# Altium schematic symbol library PX4FMUv2.4.6.SCHLIB: 261 symbols (part 2 of 3)
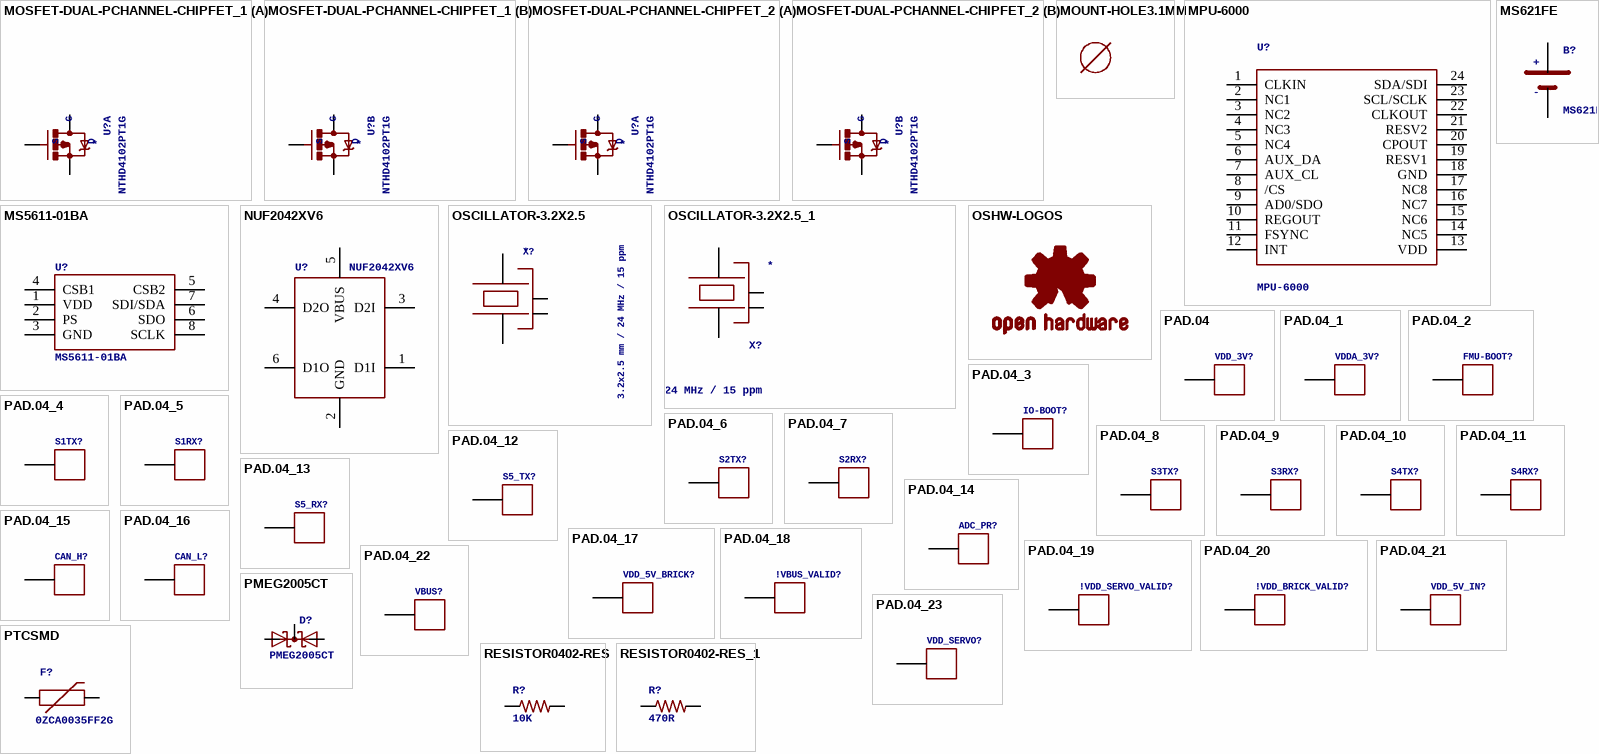
[diagram p9: symbols MOSFET-DUAL-PCHANNEL-CHIPFET_1 to RESISTOR0402-RES_1]

## PAD.04_9
designator S3RX?, comment PAD.04  (value not drawn)
Test padThis footprint includes three classes: The actual test pads, a pogo-pin footprint to mount the pogo-pin as through-hole part and a hole footprint which allows the head of the pogo-pin to pass through (do NOT use the hole to mount the pogo-pin). In a typical test setup, the stack would consist of three PCBs: The actual PCB under testing with a test pad on the bottom, then a second PCB with the hole for the pogo-pin head where the PCB under testing is pressed on and a third PCB at 30 mm / 1.2" distance with the pogo-pin footprints. The pogo-pins are soldered to the last PCB. To create the stack, copy the board under testing and exchange the footprints - this way the correct positioning is ensured.; GateName_1: G$1; DeviceName: .04; BOM: EXCLUDE; SymbolName_1: PAD; LibraryName: pixhawk2; DeviceSetName: PAD; PARTNO: *
footprint PAD.04X.04
pins: P$1

## PAD.04_10
designator S4TX?, comment PAD.04  (value not drawn)
Test padThis footprint includes three classes: The actual test pads, a pogo-pin footprint to mount the pogo-pin as through-hole part and a hole footprint which allows the head of the pogo-pin to pass through (do NOT use the hole to mount the pogo-pin). In a typical test setup, the stack would consist of three PCBs: The actual PCB under testing with a test pad on the bottom, then a second PCB with the hole for the pogo-pin head where the PCB under testing is pressed on and a third PCB at 30 mm / 1.2" distance with the pogo-pin footprints. The pogo-pins are soldered to the last PCB. To create the stack, copy the board under testing and exchange the footprints - this way the correct positioning is ensured.; GateName_1: G$1; DeviceName: .04; BOM: EXCLUDE; SymbolName_1: PAD; LibraryName: pixhawk2; DeviceSetName: PAD; PARTNO: *
footprint PAD.04X.04
pins: P$1

## PAD.04_11
designator S4RX?, comment PAD.04  (value not drawn)
Test padThis footprint includes three classes: The actual test pads, a pogo-pin footprint to mount the pogo-pin as through-hole part and a hole footprint which allows the head of the pogo-pin to pass through (do NOT use the hole to mount the pogo-pin). In a typical test setup, the stack would consist of three PCBs: The actual PCB under testing with a test pad on the bottom, then a second PCB with the hole for the pogo-pin head where the PCB under testing is pressed on and a third PCB at 30 mm / 1.2" distance with the pogo-pin footprints. The pogo-pins are soldered to the last PCB. To create the stack, copy the board under testing and exchange the footprints - this way the correct positioning is ensured.; GateName_1: G$1; DeviceName: .04; BOM: EXCLUDE; SymbolName_1: PAD; LibraryName: pixhawk2; DeviceSetName: PAD; PARTNO: *
footprint PAD.04X.04
pins: P$1

## PAD.04_12
designator S5_TX?, comment PAD.04  (value not drawn)
Test padThis footprint includes three classes: The actual test pads, a pogo-pin footprint to mount the pogo-pin as through-hole part and a hole footprint which allows the head of the pogo-pin to pass through (do NOT use the hole to mount the pogo-pin). In a typical test setup, the stack would consist of three PCBs: The actual PCB under testing with a test pad on the bottom, then a second PCB with the hole for the pogo-pin head where the PCB under testing is pressed on and a third PCB at 30 mm / 1.2" distance with the pogo-pin footprints. The pogo-pins are soldered to the last PCB. To create the stack, copy the board under testing and exchange the footprints - this way the correct positioning is ensured.; GateName_1: G$1; DeviceName: .04; BOM: EXCLUDE; SymbolName_1: PAD; LibraryName: pixhawk2; DeviceSetName: PAD; PARTNO: *
footprint PAD.04X.04
pins: P$1

## PAD.04_13
designator S5_RX?, comment PAD.04  (value not drawn)
Test padThis footprint includes three classes: The actual test pads, a pogo-pin footprint to mount the pogo-pin as through-hole part and a hole footprint which allows the head of the pogo-pin to pass through (do NOT use the hole to mount the pogo-pin). In a typical test setup, the stack would consist of three PCBs: The actual PCB under testing with a test pad on the bottom, then a second PCB with the hole for the pogo-pin head where the PCB under testing is pressed on and a third PCB at 30 mm / 1.2" distance with the pogo-pin footprints. The pogo-pins are soldered to the last PCB. To create the stack, copy the board under testing and exchange the footprints - this way the correct positioning is ensured.; GateName_1: G$1; DeviceName: .04; BOM: EXCLUDE; SymbolName_1: PAD; LibraryName: pixhawk2; DeviceSetName: PAD; PARTNO: *
footprint PAD.04X.04
pins: P$1

## PAD.04_14
designator ADC_PR?, comment PAD.04  (value not drawn)
Test padThis footprint includes three classes: The actual test pads, a pogo-pin footprint to mount the pogo-pin as through-hole part and a hole footprint which allows the head of the pogo-pin to pass through (do NOT use the hole to mount the pogo-pin). In a typical test setup, the stack would consist of three PCBs: The actual PCB under testing with a test pad on the bottom, then a second PCB with the hole for the pogo-pin head where the PCB under testing is pressed on and a third PCB at 30 mm / 1.2" distance with the pogo-pin footprints. The pogo-pins are soldered to the last PCB. To create the stack, copy the board under testing and exchange the footprints - this way the correct positioning is ensured.; GateName_1: G$1; DeviceName: .04; BOM: EXCLUDE; SymbolName_1: PAD; LibraryName: pixhawk2; DeviceSetName: PAD; PARTNO: *
footprint PAD.04X.04
pins: P$1

## PAD.04_15
designator CAN_H?, comment PAD.04  (value not drawn)
Test padThis footprint includes three classes: The actual test pads, a pogo-pin footprint to mount the pogo-pin as through-hole part and a hole footprint which allows the head of the pogo-pin to pass through (do NOT use the hole to mount the pogo-pin). In a typical test setup, the stack would consist of three PCBs: The actual PCB under testing with a test pad on the bottom, then a second PCB with the hole for the pogo-pin head where the PCB under testing is pressed on and a third PCB at 30 mm / 1.2" distance with the pogo-pin footprints. The pogo-pins are soldered to the last PCB. To create the stack, copy the board under testing and exchange the footprints - this way the correct positioning is ensured.; GateName_1: G$1; DeviceName: .04; BOM: EXCLUDE; SymbolName_1: PAD; LibraryName: pixhawk2; DeviceSetName: PAD; PARTNO: *
footprint PAD.04X.04
pins: P$1

## PAD.04_16
designator CAN_L?, comment PAD.04  (value not drawn)
Test padThis footprint includes three classes: The actual test pads, a pogo-pin footprint to mount the pogo-pin as through-hole part and a hole footprint which allows the head of the pogo-pin to pass through (do NOT use the hole to mount the pogo-pin). In a typical test setup, the stack would consist of three PCBs: The actual PCB under testing with a test pad on the bottom, then a second PCB with the hole for the pogo-pin head where the PCB under testing is pressed on and a third PCB at 30 mm / 1.2" distance with the pogo-pin footprints. The pogo-pins are soldered to the last PCB. To create the stack, copy the board under testing and exchange the footprints - this way the correct positioning is ensured.; GateName_1: G$1; DeviceName: .04; BOM: EXCLUDE; SymbolName_1: PAD; LibraryName: pixhawk2; DeviceSetName: PAD; PARTNO: *
footprint PAD.04X.04
pins: P$1

## PAD.04_17
designator VDD_5V_BRICK?, comment PAD.04  (value not drawn)
Test padThis footprint includes three classes: The actual test pads, a pogo-pin footprint to mount the pogo-pin as through-hole part and a hole footprint which allows the head of the pogo-pin to pass through (do NOT use the hole to mount the pogo-pin). In a typical test setup, the stack would consist of three PCBs: The actual PCB under testing with a test pad on the bottom, then a second PCB with the hole for the pogo-pin head where the PCB under testing is pressed on and a third PCB at 30 mm / 1.2" distance with the pogo-pin footprints. The pogo-pins are soldered to the last PCB. To create the stack, copy the board under testing and exchange the footprints - this way the correct positioning is ensured.; GateName_1: G$1; DeviceName: .04; BOM: EXCLUDE; SymbolName_1: PAD; LibraryName: pixhawk2; DeviceSetName: PAD; PARTNO: *
footprint PAD.04X.04
pins: P$1

## PAD.04_18
designator !VBUS_VALID?, comment PAD.04  (value not drawn)
Test padThis footprint includes three classes: The actual test pads, a pogo-pin footprint to mount the pogo-pin as through-hole part and a hole footprint which allows the head of the pogo-pin to pass through (do NOT use the hole to mount the pogo-pin). In a typical test setup, the stack would consist of three PCBs: The actual PCB under testing with a test pad on the bottom, then a second PCB with the hole for the pogo-pin head where the PCB under testing is pressed on and a third PCB at 30 mm / 1.2" distance with the pogo-pin footprints. The pogo-pins are soldered to the last PCB. To create the stack, copy the board under testing and exchange the footprints - this way the correct positioning is ensured.; GateName_1: G$1; DeviceName: .04; BOM: EXCLUDE; SymbolName_1: PAD; LibraryName: pixhawk2; DeviceSetName: PAD; PARTNO: *
footprint PAD.04X.04
pins: P$1

## PAD.04_19
designator !VDD_SERVO_VALID?, comment PAD.04  (value not drawn)
Test padThis footprint includes three classes: The actual test pads, a pogo-pin footprint to mount the pogo-pin as through-hole part and a hole footprint which allows the head of the pogo-pin to pass through (do NOT use the hole to mount the pogo-pin). In a typical test setup, the stack would consist of three PCBs: The actual PCB under testing with a test pad on the bottom, then a second PCB with the hole for the pogo-pin head where the PCB under testing is pressed on and a third PCB at 30 mm / 1.2" distance with the pogo-pin footprints. The pogo-pins are soldered to the last PCB. To create the stack, copy the board under testing and exchange the footprints - this way the correct positioning is ensured.; GateName_1: G$1; DeviceName: .04; BOM: EXCLUDE; SymbolName_1: PAD; LibraryName: pixhawk2; DeviceSetName: PAD; PARTNO: *
footprint PAD.04X.04
pins: P$1

## PAD.04_20
designator !VDD_BRICK_VALID?, comment PAD.04  (value not drawn)
Test padThis footprint includes three classes: The actual test pads, a pogo-pin footprint to mount the pogo-pin as through-hole part and a hole footprint which allows the head of the pogo-pin to pass through (do NOT use the hole to mount the pogo-pin). In a typical test setup, the stack would consist of three PCBs: The actual PCB under testing with a test pad on the bottom, then a second PCB with the hole for the pogo-pin head where the PCB under testing is pressed on and a third PCB at 30 mm / 1.2" distance with the pogo-pin footprints. The pogo-pins are soldered to the last PCB. To create the stack, copy the board under testing and exchange the footprints - this way the correct positioning is ensured.; GateName_1: G$1; DeviceName: .04; BOM: EXCLUDE; SymbolName_1: PAD; LibraryName: pixhawk2; DeviceSetName: PAD; PARTNO: *
footprint PAD.04X.04
pins: P$1

## PAD.04_21
designator VDD_5V_IN?, comment PAD.04  (value not drawn)
Test padThis footprint includes three classes: The actual test pads, a pogo-pin footprint to mount the pogo-pin as through-hole part and a hole footprint which allows the head of the pogo-pin to pass through (do NOT use the hole to mount the pogo-pin). In a typical test setup, the stack would consist of three PCBs: The actual PCB under testing with a test pad on the bottom, then a second PCB with the hole for the pogo-pin head where the PCB under testing is pressed on and a third PCB at 30 mm / 1.2" distance with the pogo-pin footprints. The pogo-pins are soldered to the last PCB. To create the stack, copy the board under testing and exchange the footprints - this way the correct positioning is ensured.; GateName_1: G$1; DeviceName: .04; BOM: EXCLUDE; SymbolName_1: PAD; LibraryName: pixhawk2; DeviceSetName: PAD; PARTNO: *
footprint PAD.04X.04
pins: P$1

## PAD.04_22
designator VBUS?, comment PAD.04  (value not drawn)
Test padThis footprint includes three classes: The actual test pads, a pogo-pin footprint to mount the pogo-pin as through-hole part and a hole footprint which allows the head of the pogo-pin to pass through (do NOT use the hole to mount the pogo-pin). In a typical test setup, the stack would consist of three PCBs: The actual PCB under testing with a test pad on the bottom, then a second PCB with the hole for the pogo-pin head where the PCB under testing is pressed on and a third PCB at 30 mm / 1.2" distance with the pogo-pin footprints. The pogo-pins are soldered to the last PCB. To create the stack, copy the board under testing and exchange the footprints - this way the correct positioning is ensured.; GateName_1: G$1; DeviceName: .04; BOM: EXCLUDE; SymbolName_1: PAD; LibraryName: pixhawk2; DeviceSetName: PAD; PARTNO: *
footprint PAD.04X.04
pins: P$1

## PAD.04_23
designator VDD_SERVO?, comment PAD.04  (value not drawn)
Test padThis footprint includes three classes: The actual test pads, a pogo-pin footprint to mount the pogo-pin as through-hole part and a hole footprint which allows the head of the pogo-pin to pass through (do NOT use the hole to mount the pogo-pin). In a typical test setup, the stack would consist of three PCBs: The actual PCB under testing with a test pad on the bottom, then a second PCB with the hole for the pogo-pin head where the PCB under testing is pressed on and a third PCB at 30 mm / 1.2" distance with the pogo-pin footprints. The pogo-pins are soldered to the last PCB. To create the stack, copy the board under testing and exchange the footprints - this way the correct positioning is ensured.; GateName_1: G$1; DeviceName: .04; BOM: EXCLUDE; SymbolName_1: PAD; LibraryName: pixhawk2; DeviceSetName: PAD; PARTNO: *
footprint PAD.04X.04
pins: P$1

## PMEG2005CT
designator D?
500 mA low VF dual MEGA Schottky barrier rectifierhttp://www.nxp.com/documents/data_sheet/PMEG2005CT.pdf; GateName_1: G$1; SymbolName_1: SDD_AKKA; LibraryName: pixhawk2; DeviceSetName: PMEG2005CT; PARTNO: PMEG2005CT
footprint SOT23-3
pins: 1 A1, 2 A2, 3 CC

## PTCSMD
designator F?, comment 0ZCA0035FF2G
Resettable Fuse PTCResettable Fuse. Spark Fun Electronics SKU : COM-08357; GateName_1: G$1; SymbolName_1: PTC; DeviceName: SMD; LibraryName: pixhawk2; DeviceSetName: PTC; PARTNO: 0ZCA0035FF2G
footprint PTC-1206
pins: 1, 2

## RESISTOR0402-RES
designator R?, comment 10K
ResistorBasic schematic elements and footprints for 0603, 1206, and PTH 1/10th watt (small) resistors.; PARTNO: RC0402FR-0710KL; GateName_1: G$1; DeviceName: 0402-RES; SymbolName_1: RESISTOR; LibraryName: pixhawk2; DeviceSetName: RESISTOR
footprint 0402-RES
pins: P$1 1, P$2 2

## RESISTOR0402-RES_1
designator R?, comment 470R
ResistorBasic schematic elements and footprints for 0603, 1206, and PTH 1/10th watt (small) resistors.; PARTNO: RC0402FR-07470RL; GateName_1: G$1; DeviceName: 0402-RES; SymbolName_1: RESISTOR; LibraryName: pixhawk2; DeviceSetName: RESISTOR
footprint 0402-RES
pins: P$1 1, P$2 2

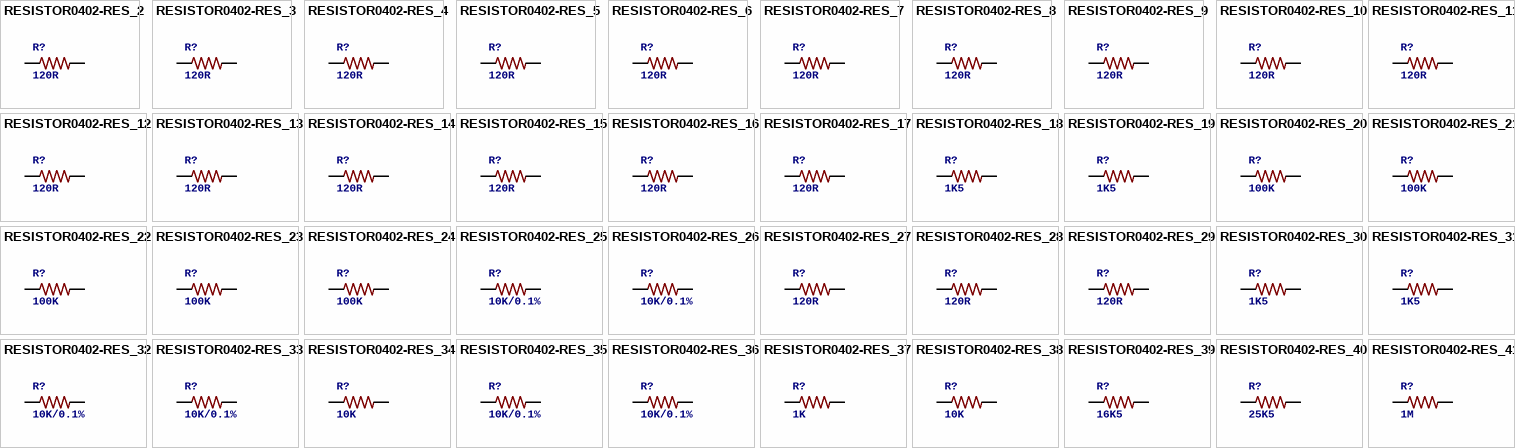
[diagram p5: symbols RESISTOR0402-RES_2 to RESISTOR0402-RES_41]

## RESISTOR0402-RES_2
designator R?, comment 120R
ResistorBasic schematic elements and footprints for 0603, 1206, and PTH 1/10th watt (small) resistors.; PARTNO: RC0402FR-07120RL; GateName_1: G$1; DeviceName: 0402-RES; SymbolName_1: RESISTOR; LibraryName: pixhawk2; DeviceSetName: RESISTOR
footprint 0402-RES
pins: P$1 1, P$2 2

## RESISTOR0402-RES_3
designator R?, comment 120R
ResistorBasic schematic elements and footprints for 0603, 1206, and PTH 1/10th watt (small) resistors.; PARTNO: RC0402FR-07120RL; GateName_1: G$1; DeviceName: 0402-RES; SymbolName_1: RESISTOR; LibraryName: pixhawk2; DeviceSetName: RESISTOR
footprint 0402-RES
pins: P$1 1, P$2 2

## RESISTOR0402-RES_4
designator R?, comment 120R
ResistorBasic schematic elements and footprints for 0603, 1206, and PTH 1/10th watt (small) resistors.; PARTNO: RC0402FR-07120RL; GateName_1: G$1; DeviceName: 0402-RES; SymbolName_1: RESISTOR; LibraryName: pixhawk2; DeviceSetName: RESISTOR
footprint 0402-RES
pins: P$1 1, P$2 2

## RESISTOR0402-RES_5
designator R?, comment 120R
ResistorBasic schematic elements and footprints for 0603, 1206, and PTH 1/10th watt (small) resistors.; PARTNO: RC0402FR-07120RL; GateName_1: G$1; DeviceName: 0402-RES; SymbolName_1: RESISTOR; LibraryName: pixhawk2; DeviceSetName: RESISTOR
footprint 0402-RES
pins: P$1 1, P$2 2

## RESISTOR0402-RES_6
designator R?, comment 120R
ResistorBasic schematic elements and footprints for 0603, 1206, and PTH 1/10th watt (small) resistors.; PARTNO: RC0402FR-07120RL; GateName_1: G$1; DeviceName: 0402-RES; SymbolName_1: RESISTOR; LibraryName: pixhawk2; DeviceSetName: RESISTOR
footprint 0402-RES
pins: P$1 1, P$2 2

## RESISTOR0402-RES_7
designator R?, comment 120R
ResistorBasic schematic elements and footprints for 0603, 1206, and PTH 1/10th watt (small) resistors.; PARTNO: RC0402FR-07120RL; GateName_1: G$1; DeviceName: 0402-RES; SymbolName_1: RESISTOR; LibraryName: pixhawk2; DeviceSetName: RESISTOR
footprint 0402-RES
pins: P$1 1, P$2 2

## RESISTOR0402-RES_8
designator R?, comment 120R
ResistorBasic schematic elements and footprints for 0603, 1206, and PTH 1/10th watt (small) resistors.; PARTNO: RC0402FR-07120RL; GateName_1: G$1; DeviceName: 0402-RES; SymbolName_1: RESISTOR; LibraryName: pixhawk2; DeviceSetName: RESISTOR
footprint 0402-RES
pins: P$1 1, P$2 2

## RESISTOR0402-RES_9
designator R?, comment 120R
ResistorBasic schematic elements and footprints for 0603, 1206, and PTH 1/10th watt (small) resistors.; PARTNO: RC0402FR-07120RL; GateName_1: G$1; DeviceName: 0402-RES; SymbolName_1: RESISTOR; LibraryName: pixhawk2; DeviceSetName: RESISTOR
footprint 0402-RES
pins: P$1 1, P$2 2

## RESISTOR0402-RES_10
designator R?, comment 120R
ResistorBasic schematic elements and footprints for 0603, 1206, and PTH 1/10th watt (small) resistors.; PARTNO: RC0402FR-07120RL; GateName_1: G$1; DeviceName: 0402-RES; SymbolName_1: RESISTOR; LibraryName: pixhawk2; DeviceSetName: RESISTOR
footprint 0402-RES
pins: P$1 1, P$2 2

## RESISTOR0402-RES_11
designator R?, comment 120R
ResistorBasic schematic elements and footprints for 0603, 1206, and PTH 1/10th watt (small) resistors.; PARTNO: RC0402FR-07120RL; GateName_1: G$1; DeviceName: 0402-RES; SymbolName_1: RESISTOR; LibraryName: pixhawk2; DeviceSetName: RESISTOR
footprint 0402-RES
pins: P$1 1, P$2 2

## RESISTOR0402-RES_12
designator R?, comment 120R
ResistorBasic schematic elements and footprints for 0603, 1206, and PTH 1/10th watt (small) resistors.; PARTNO: RC0402FR-07120RL; GateName_1: G$1; DeviceName: 0402-RES; SymbolName_1: RESISTOR; LibraryName: pixhawk2; DeviceSetName: RESISTOR
footprint 0402-RES
pins: P$1 1, P$2 2

## RESISTOR0402-RES_13
designator R?, comment 120R
ResistorBasic schematic elements and footprints for 0603, 1206, and PTH 1/10th watt (small) resistors.; PARTNO: RC0402FR-07120RL; GateName_1: G$1; DeviceName: 0402-RES; SymbolName_1: RESISTOR; LibraryName: pixhawk2; DeviceSetName: RESISTOR
footprint 0402-RES
pins: P$1 1, P$2 2

## RESISTOR0402-RES_14
designator R?, comment 120R
ResistorBasic schematic elements and footprints for 0603, 1206, and PTH 1/10th watt (small) resistors.; PARTNO: RC0402FR-07120RL; GateName_1: G$1; DeviceName: 0402-RES; SymbolName_1: RESISTOR; LibraryName: pixhawk2; DeviceSetName: RESISTOR
footprint 0402-RES
pins: P$1 1, P$2 2

## RESISTOR0402-RES_15
designator R?, comment 120R
ResistorBasic schematic elements and footprints for 0603, 1206, and PTH 1/10th watt (small) resistors.; PARTNO: RC0402FR-07120RL; GateName_1: G$1; DeviceName: 0402-RES; SymbolName_1: RESISTOR; LibraryName: pixhawk2; DeviceSetName: RESISTOR
footprint 0402-RES
pins: P$1 1, P$2 2

## RESISTOR0402-RES_16
designator R?, comment 120R
ResistorBasic schematic elements and footprints for 0603, 1206, and PTH 1/10th watt (small) resistors.; PARTNO: RC0402FR-07120RL; GateName_1: G$1; DeviceName: 0402-RES; SymbolName_1: RESISTOR; LibraryName: pixhawk2; DeviceSetName: RESISTOR
footprint 0402-RES
pins: P$1 1, P$2 2

## RESISTOR0402-RES_17
designator R?, comment 120R
ResistorBasic schematic elements and footprints for 0603, 1206, and PTH 1/10th watt (small) resistors.; PARTNO: RC0402FR-07120RL; GateName_1: G$1; DeviceName: 0402-RES; SymbolName_1: RESISTOR; LibraryName: pixhawk2; DeviceSetName: RESISTOR
footprint 0402-RES
pins: P$1 1, P$2 2

## RESISTOR0402-RES_18
designator R?, comment 1K5
ResistorBasic schematic elements and footprints for 0603, 1206, and PTH 1/10th watt (small) resistors.; PARTNO: RC0402FR-071K5L; GateName_1: G$1; DeviceName: 0402-RES; SymbolName_1: RESISTOR; LibraryName: pixhawk2; DeviceSetName: RESISTOR
footprint 0402-RES
pins: P$1 1, P$2 2

## RESISTOR0402-RES_19
designator R?, comment 1K5
ResistorBasic schematic elements and footprints for 0603, 1206, and PTH 1/10th watt (small) resistors.; PARTNO: RC0402FR-071K5L; GateName_1: G$1; DeviceName: 0402-RES; SymbolName_1: RESISTOR; LibraryName: pixhawk2; DeviceSetName: RESISTOR
footprint 0402-RES
pins: P$1 1, P$2 2

## RESISTOR0402-RES_20
designator R?, comment 100K
ResistorBasic schematic elements and footprints for 0603, 1206, and PTH 1/10th watt (small) resistors.; PARTNO: RC0402FR-07100KL; GateName_1: G$1; DeviceName: 0402-RES; SymbolName_1: RESISTOR; LibraryName: pixhawk2; DeviceSetName: RESISTOR
footprint 0402-RES
pins: P$1 1, P$2 2

## RESISTOR0402-RES_21
designator R?, comment 100K
ResistorBasic schematic elements and footprints for 0603, 1206, and PTH 1/10th watt (small) resistors.; PARTNO: RC0402FR-07100KL; GateName_1: G$1; DeviceName: 0402-RES; SymbolName_1: RESISTOR; LibraryName: pixhawk2; DeviceSetName: RESISTOR
footprint 0402-RES
pins: P$1 1, P$2 2

## RESISTOR0402-RES_22
designator R?, comment 100K
ResistorBasic schematic elements and footprints for 0603, 1206, and PTH 1/10th watt (small) resistors.; PARTNO: RC0402FR-07100KL; GateName_1: G$1; DeviceName: 0402-RES; SymbolName_1: RESISTOR; LibraryName: pixhawk2; DeviceSetName: RESISTOR
footprint 0402-RES
pins: P$1 1, P$2 2

## RESISTOR0402-RES_23
designator R?, comment 100K
ResistorBasic schematic elements and footprints for 0603, 1206, and PTH 1/10th watt (small) resistors.; PARTNO: RC0402FR-07100KL; GateName_1: G$1; DeviceName: 0402-RES; SymbolName_1: RESISTOR; LibraryName: pixhawk2; DeviceSetName: RESISTOR
footprint 0402-RES
pins: P$1 1, P$2 2

## RESISTOR0402-RES_24
designator R?, comment 100K
ResistorBasic schematic elements and footprints for 0603, 1206, and PTH 1/10th watt (small) resistors.; PARTNO: RC0402FR-07100KL; GateName_1: G$1; DeviceName: 0402-RES; SymbolName_1: RESISTOR; LibraryName: pixhawk2; DeviceSetName: RESISTOR
footprint 0402-RES
pins: P$1 1, P$2 2

## RESISTOR0402-RES_25
designator R?, comment 10K/0.1%
ResistorBasic schematic elements and footprints for 0603, 1206, and PTH 1/10th watt (small) resistors.; PARTNO: ERA-2AEB103X; GateName_1: G$1; DeviceName: 0402-RES; SymbolName_1: RESISTOR; LibraryName: pixhawk2; DeviceSetName: RESISTOR
footprint 0402-RES
pins: P$1 1, P$2 2

## RESISTOR0402-RES_26
designator R?, comment 10K/0.1%
ResistorBasic schematic elements and footprints for 0603, 1206, and PTH 1/10th watt (small) resistors.; PARTNO: ERA-2AEB103X; GateName_1: G$1; DeviceName: 0402-RES; SymbolName_1: RESISTOR; LibraryName: pixhawk2; DeviceSetName: RESISTOR
footprint 0402-RES
pins: P$1 1, P$2 2

## RESISTOR0402-RES_27
designator R?, comment 120R
ResistorBasic schematic elements and footprints for 0603, 1206, and PTH 1/10th watt (small) resistors.; PARTNO: RC0402FR-07120RL; GateName_1: G$1; DeviceName: 0402-RES; SymbolName_1: RESISTOR; LibraryName: pixhawk2; DeviceSetName: RESISTOR
footprint 0402-RES
pins: P$1 1, P$2 2

## RESISTOR0402-RES_28
designator R?, comment 120R
ResistorBasic schematic elements and footprints for 0603, 1206, and PTH 1/10th watt (small) resistors.; PARTNO: RC0402FR-07120RL; GateName_1: G$1; DeviceName: 0402-RES; SymbolName_1: RESISTOR; LibraryName: pixhawk2; DeviceSetName: RESISTOR
footprint 0402-RES
pins: P$1 1, P$2 2

## RESISTOR0402-RES_29
designator R?, comment 120R
ResistorBasic schematic elements and footprints for 0603, 1206, and PTH 1/10th watt (small) resistors.; PARTNO: RC0402FR-07120RL; GateName_1: G$1; DeviceName: 0402-RES; SymbolName_1: RESISTOR; LibraryName: pixhawk2; DeviceSetName: RESISTOR
footprint 0402-RES
pins: P$1 1, P$2 2

## RESISTOR0402-RES_30
designator R?, comment 1K5
ResistorBasic schematic elements and footprints for 0603, 1206, and PTH 1/10th watt (small) resistors.; PARTNO: RC0402FR-071K5L; GateName_1: G$1; DeviceName: 0402-RES; SymbolName_1: RESISTOR; LibraryName: pixhawk2; DeviceSetName: RESISTOR
footprint 0402-RES
pins: P$1 1, P$2 2

## RESISTOR0402-RES_31
designator R?, comment 1K5
ResistorBasic schematic elements and footprints for 0603, 1206, and PTH 1/10th watt (small) resistors.; PARTNO: RC0402FR-071K5L; GateName_1: G$1; DeviceName: 0402-RES; SymbolName_1: RESISTOR; LibraryName: pixhawk2; DeviceSetName: RESISTOR
footprint 0402-RES
pins: P$1 1, P$2 2

## RESISTOR0402-RES_32
designator R?, comment 10K/0.1%
ResistorBasic schematic elements and footprints for 0603, 1206, and PTH 1/10th watt (small) resistors.; PARTNO: ERA-2AEB103X; GateName_1: G$1; DeviceName: 0402-RES; SymbolName_1: RESISTOR; LibraryName: pixhawk2; DeviceSetName: RESISTOR
footprint 0402-RES
pins: P$1 1, P$2 2

## RESISTOR0402-RES_33
designator R?, comment 10K/0.1%
ResistorBasic schematic elements and footprints for 0603, 1206, and PTH 1/10th watt (small) resistors.; PARTNO: ERA-2AEB103X; GateName_1: G$1; DeviceName: 0402-RES; SymbolName_1: RESISTOR; LibraryName: pixhawk2; DeviceSetName: RESISTOR
footprint 0402-RES
pins: P$1 1, P$2 2

## RESISTOR0402-RES_34
designator R?, comment 10K
ResistorBasic schematic elements and footprints for 0603, 1206, and PTH 1/10th watt (small) resistors.; PARTNO: RC0402FR-0710KL; GateName_1: G$1; DeviceName: 0402-RES; SymbolName_1: RESISTOR; LibraryName: pixhawk2; DeviceSetName: RESISTOR
footprint 0402-RES
pins: P$1 1, P$2 2

## RESISTOR0402-RES_35
designator R?, comment 10K/0.1%
ResistorBasic schematic elements and footprints for 0603, 1206, and PTH 1/10th watt (small) resistors.; PARTNO: ERA-2AEB103X; GateName_1: G$1; DeviceName: 0402-RES; SymbolName_1: RESISTOR; LibraryName: pixhawk2; DeviceSetName: RESISTOR
footprint 0402-RES
pins: P$1 1, P$2 2

## RESISTOR0402-RES_36
designator R?, comment 10K/0.1%
ResistorBasic schematic elements and footprints for 0603, 1206, and PTH 1/10th watt (small) resistors.; PARTNO: ERA-2AEB103X; GateName_1: G$1; DeviceName: 0402-RES; SymbolName_1: RESISTOR; LibraryName: pixhawk2; DeviceSetName: RESISTOR
footprint 0402-RES
pins: P$1 1, P$2 2

## RESISTOR0402-RES_37
designator R?, comment 1K
ResistorBasic schematic elements and footprints for 0603, 1206, and PTH 1/10th watt (small) resistors.; PARTNO: RC0402FR-071KL; GateName_1: G$1; DeviceName: 0402-RES; SymbolName_1: RESISTOR; LibraryName: pixhawk2; DeviceSetName: RESISTOR
footprint 0402-RES
pins: P$1 1, P$2 2

## RESISTOR0402-RES_38
designator R?, comment 10K
ResistorBasic schematic elements and footprints for 0603, 1206, and PTH 1/10th watt (small) resistors.; PARTNO: RC0402FR-0710KL; GateName_1: G$1; DeviceName: 0402-RES; SymbolName_1: RESISTOR; LibraryName: pixhawk2; DeviceSetName: RESISTOR
footprint 0402-RES
pins: P$1 1, P$2 2

## RESISTOR0402-RES_39
designator R?, comment 16K5
ResistorBasic schematic elements and footprints for 0603, 1206, and PTH 1/10th watt (small) resistors.; PARTNO: RMCF0402FT16K5; GateName_1: G$1; DeviceName: 0402-RES; SymbolName_1: RESISTOR; LibraryName: pixhawk2; DeviceSetName: RESISTOR
footprint 0402-RES
pins: P$1 1, P$2 2

## RESISTOR0402-RES_40
designator R?, comment 25K5
ResistorBasic schematic elements and footprints for 0603, 1206, and PTH 1/10th watt (small) resistors.; PARTNO: RMCF0402FT25K5; GateName_1: G$1; DeviceName: 0402-RES; SymbolName_1: RESISTOR; LibraryName: pixhawk2; DeviceSetName: RESISTOR
footprint 0402-RES
pins: P$1 1, P$2 2

## RESISTOR0402-RES_41
designator R?, comment 1M
ResistorBasic schematic elements and footprints for 0603, 1206, and PTH 1/10th watt (small) resistors.; PARTNO: RC0402FR-071ML; GateName_1: G$1; DeviceName: 0402-RES; SymbolName_1: RESISTOR; LibraryName: pixhawk2; DeviceSetName: RESISTOR
footprint 0402-RES
pins: P$1 1, P$2 2

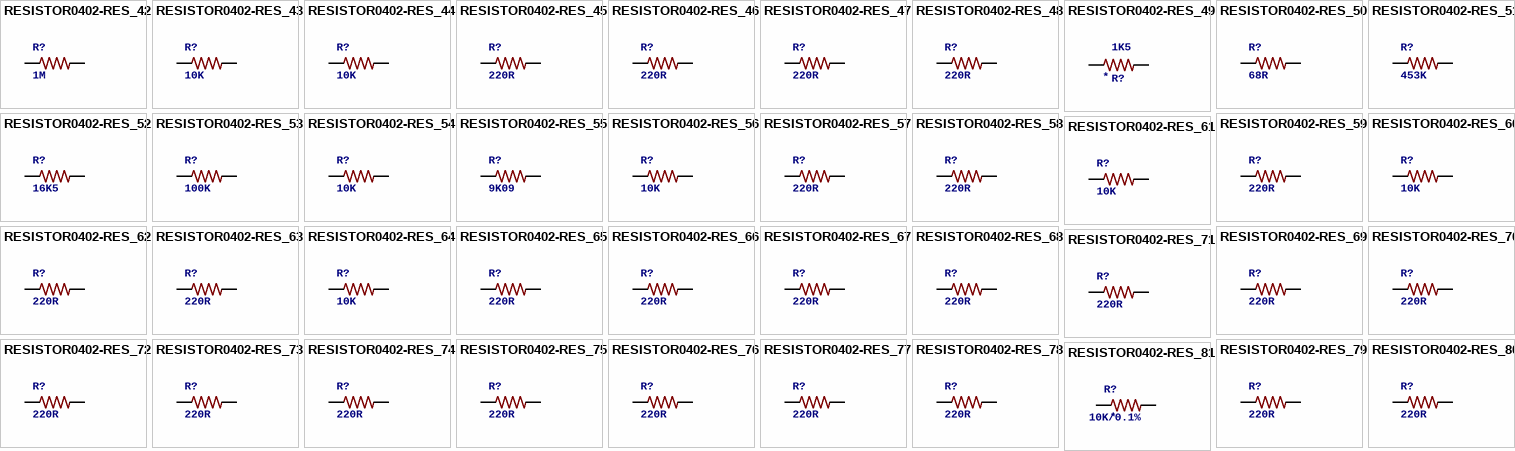
[diagram p6: symbols RESISTOR0402-RES_42 to RESISTOR0402-RES_81]

## RESISTOR0402-RES_42
designator R?, comment 1M
ResistorBasic schematic elements and footprints for 0603, 1206, and PTH 1/10th watt (small) resistors.; PARTNO: RC0402FR-071ML; GateName_1: G$1; DeviceName: 0402-RES; SymbolName_1: RESISTOR; LibraryName: pixhawk2; DeviceSetName: RESISTOR
footprint 0402-RES
pins: P$1 1, P$2 2

## RESISTOR0402-RES_43
designator R?, comment 10K
ResistorBasic schematic elements and footprints for 0603, 1206, and PTH 1/10th watt (small) resistors.; PARTNO: RC0402FR-0710KL; GateName_1: G$1; DeviceName: 0402-RES; SymbolName_1: RESISTOR; LibraryName: pixhawk2; DeviceSetName: RESISTOR; BOM: *
footprint 0402-RES
pins: P$1 1, P$2 2

## RESISTOR0402-RES_44
designator R?, comment 10K
ResistorBasic schematic elements and footprints for 0603, 1206, and PTH 1/10th watt (small) resistors.; PARTNO: RC0402FR-0710KL; GateName_1: G$1; DeviceName: 0402-RES; BOM: EXCLUDE; SymbolName_1: RESISTOR; LibraryName: pixhawk2; DeviceSetName: RESISTOR
footprint 0402-RES
pins: P$1 1, P$2 2

## RESISTOR0402-RES_45
designator R?, comment 220R
ResistorBasic schematic elements and footprints for 0603, 1206, and PTH 1/10th watt (small) resistors.; PARTNO: RC0402FR-07220RL; GateName_1: G$1; DeviceName: 0402-RES; SymbolName_1: RESISTOR; LibraryName: pixhawk2; DeviceSetName: RESISTOR
footprint 0402-RES
pins: P$1 1, P$2 2

## RESISTOR0402-RES_46
designator R?, comment 220R
ResistorBasic schematic elements and footprints for 0603, 1206, and PTH 1/10th watt (small) resistors.; PARTNO: RC0402FR-07220RL; GateName_1: G$1; DeviceName: 0402-RES; SymbolName_1: RESISTOR; LibraryName: pixhawk2; DeviceSetName: RESISTOR
footprint 0402-RES
pins: P$1 1, P$2 2

## RESISTOR0402-RES_47
designator R?, comment 220R
ResistorBasic schematic elements and footprints for 0603, 1206, and PTH 1/10th watt (small) resistors.; PARTNO: RC0402FR-07220RL; GateName_1: G$1; DeviceName: 0402-RES; SymbolName_1: RESISTOR; LibraryName: pixhawk2; DeviceSetName: RESISTOR
footprint 0402-RES
pins: P$1 1, P$2 2

## RESISTOR0402-RES_48
designator R?, comment 220R
ResistorBasic schematic elements and footprints for 0603, 1206, and PTH 1/10th watt (small) resistors.; PARTNO: RC0402FR-07220RL; GateName_1: G$1; DeviceName: 0402-RES; SymbolName_1: RESISTOR; LibraryName: pixhawk2; DeviceSetName: RESISTOR
footprint 0402-RES
pins: P$1 1, P$2 2

## RESISTOR0402-RES_49
designator R?, comment 1K5
ResistorBasic schematic elements and footprints for 0603, 1206, and PTH 1/10th watt (small) resistors.; PARTNO: RC0402FR-071K5L; GateName_1: G$1; DeviceName: 0402-RES; SymbolName_1: RESISTOR; LibraryName: pixhawk2; DeviceSetName: RESISTOR; NAME: *
footprint 0402-RES
pins: P$1 1, P$2 2

## RESISTOR0402-RES_50
designator R?, comment 68R
ResistorBasic schematic elements and footprints for 0603, 1206, and PTH 1/10th watt (small) resistors.; PARTNO: ERJ-2GEJ680X; GateName_1: G$1; DeviceName: 0402-RES; SymbolName_1: RESISTOR; LibraryName: pixhawk2; DeviceSetName: RESISTOR
footprint 0402-RES
pins: P$1 1, P$2 2

## RESISTOR0402-RES_51
designator R?, comment 453K
ResistorBasic schematic elements and footprints for 0603, 1206, and PTH 1/10th watt (small) resistors.; PARTNO: RMCF0402FT453K; GateName_1: G$1; DeviceName: 0402-RES; SymbolName_1: RESISTOR; LibraryName: pixhawk2; DeviceSetName: RESISTOR
footprint 0402-RES
pins: P$1 1, P$2 2

## RESISTOR0402-RES_52
designator R?, comment 16K5
ResistorBasic schematic elements and footprints for 0603, 1206, and PTH 1/10th watt (small) resistors.; PARTNO: RMCF0402FT16K5; GateName_1: G$1; DeviceName: 0402-RES; SymbolName_1: RESISTOR; LibraryName: pixhawk2; DeviceSetName: RESISTOR
footprint 0402-RES
pins: P$1 1, P$2 2

## RESISTOR0402-RES_53
designator R?, comment 100K
ResistorBasic schematic elements and footprints for 0603, 1206, and PTH 1/10th watt (small) resistors.; PARTNO: RC0402FR-07100KL; GateName_1: G$1; DeviceName: 0402-RES; SymbolName_1: RESISTOR; LibraryName: pixhawk2; DeviceSetName: RESISTOR
footprint 0402-RES
pins: P$1 1, P$2 2

## RESISTOR0402-RES_54
designator R?, comment 10K
ResistorBasic schematic elements and footprints for 0603, 1206, and PTH 1/10th watt (small) resistors.; PARTNO: RC0402FR-0710KL; GateName_1: G$1; DeviceName: 0402-RES; SymbolName_1: RESISTOR; LibraryName: pixhawk2; DeviceSetName: RESISTOR
footprint 0402-RES
pins: P$1 1, P$2 2

## RESISTOR0402-RES_55
designator R?, comment 9K09
ResistorBasic schematic elements and footprints for 0603, 1206, and PTH 1/10th watt (small) resistors.; PARTNO: RMCF0402FT9K09; GateName_1: G$1; DeviceName: 0402-RES; SymbolName_1: RESISTOR; LibraryName: pixhawk2; DeviceSetName: RESISTOR
footprint 0402-RES
pins: P$1 1, P$2 2

## RESISTOR0402-RES_56
designator R?, comment 10K
ResistorBasic schematic elements and footprints for 0603, 1206, and PTH 1/10th watt (small) resistors.; PARTNO: RC0402FR-0710KL; GateName_1: G$1; DeviceName: 0402-RES; SymbolName_1: RESISTOR; LibraryName: pixhawk2; DeviceSetName: RESISTOR
footprint 0402-RES
pins: P$1 1, P$2 2

## RESISTOR0402-RES_57
designator R?, comment 220R
ResistorBasic schematic elements and footprints for 0603, 1206, and PTH 1/10th watt (small) resistors.; PARTNO: RC0402FR-07220RL; GateName_1: G$1; DeviceName: 0402-RES; SymbolName_1: RESISTOR; LibraryName: pixhawk2; DeviceSetName: RESISTOR
footprint 0402-RES
pins: P$1 1, P$2 2

## RESISTOR0402-RES_58
designator R?, comment 220R
ResistorBasic schematic elements and footprints for 0603, 1206, and PTH 1/10th watt (small) resistors.; PARTNO: RC0402FR-07220RL; GateName_1: G$1; DeviceName: 0402-RES; SymbolName_1: RESISTOR; LibraryName: pixhawk2; DeviceSetName: RESISTOR
footprint 0402-RES
pins: P$1 1, P$2 2

## RESISTOR0402-RES_59
designator R?, comment 220R
ResistorBasic schematic elements and footprints for 0603, 1206, and PTH 1/10th watt (small) resistors.; PARTNO: RC0402FR-07220RL; GateName_1: G$1; DeviceName: 0402-RES; SymbolName_1: RESISTOR; LibraryName: pixhawk2; DeviceSetName: RESISTOR
footprint 0402-RES
pins: P$1 1, P$2 2

## RESISTOR0402-RES_60
designator R?, comment 10K
ResistorBasic schematic elements and footprints for 0603, 1206, and PTH 1/10th watt (small) resistors.; PARTNO: RC0402FR-0710KL; GateName_1: G$1; DeviceName: 0402-RES; SymbolName_1: RESISTOR; LibraryName: pixhawk2; DeviceSetName: RESISTOR
footprint 0402-RES
pins: P$1 1, P$2 2

## RESISTOR0402-RES_61
designator R?, comment 10K
ResistorBasic schematic elements and footprints for 0603, 1206, and PTH 1/10th watt (small) resistors.; PARTNO: RC0402FR-0710KL; GateName_1: G$1; DeviceName: 0402-RES; SymbolName_1: RESISTOR; LibraryName: pixhawk2; DeviceSetName: RESISTOR
footprint 0402-RES
pins: P$1 1, P$2 2

## RESISTOR0402-RES_62
designator R?, comment 220R
ResistorBasic schematic elements and footprints for 0603, 1206, and PTH 1/10th watt (small) resistors.; PARTNO: RC0402FR-07220RL; GateName_1: G$1; DeviceName: 0402-RES; SymbolName_1: RESISTOR; LibraryName: pixhawk2; DeviceSetName: RESISTOR
footprint 0402-RES
pins: P$1 1, P$2 2

## RESISTOR0402-RES_63
designator R?, comment 220R
ResistorBasic schematic elements and footprints for 0603, 1206, and PTH 1/10th watt (small) resistors.; PARTNO: RC0402FR-07220RL; GateName_1: G$1; DeviceName: 0402-RES; SymbolName_1: RESISTOR; LibraryName: pixhawk2; DeviceSetName: RESISTOR
footprint 0402-RES
pins: P$1 1, P$2 2

## RESISTOR0402-RES_64
designator R?, comment 10K
ResistorBasic schematic elements and footprints for 0603, 1206, and PTH 1/10th watt (small) resistors.; PARTNO: RC0402FR-0710KL; GateName_1: G$1; DeviceName: 0402-RES; SymbolName_1: RESISTOR; LibraryName: pixhawk2; DeviceSetName: RESISTOR
footprint 0402-RES
pins: P$1 1, P$2 2

## RESISTOR0402-RES_65
designator R?, comment 220R
ResistorBasic schematic elements and footprints for 0603, 1206, and PTH 1/10th watt (small) resistors.; PARTNO: RC0402FR-07220RL; GateName_1: G$1; DeviceName: 0402-RES; SymbolName_1: RESISTOR; LibraryName: pixhawk2; DeviceSetName: RESISTOR
footprint 0402-RES
pins: P$1 1, P$2 2

## RESISTOR0402-RES_66
designator R?, comment 220R
ResistorBasic schematic elements and footprints for 0603, 1206, and PTH 1/10th watt (small) resistors.; PARTNO: RC0402FR-07220RL; GateName_1: G$1; DeviceName: 0402-RES; SymbolName_1: RESISTOR; LibraryName: pixhawk2; DeviceSetName: RESISTOR
footprint 0402-RES
pins: P$1 1, P$2 2

## RESISTOR0402-RES_67
designator R?, comment 220R
ResistorBasic schematic elements and footprints for 0603, 1206, and PTH 1/10th watt (small) resistors.; PARTNO: RC0402FR-07220RL; GateName_1: G$1; DeviceName: 0402-RES; SymbolName_1: RESISTOR; LibraryName: pixhawk2; DeviceSetName: RESISTOR
footprint 0402-RES
pins: P$1 1, P$2 2

## RESISTOR0402-RES_68
designator R?, comment 220R
ResistorBasic schematic elements and footprints for 0603, 1206, and PTH 1/10th watt (small) resistors.; PARTNO: RC0402FR-07220RL; GateName_1: G$1; DeviceName: 0402-RES; SymbolName_1: RESISTOR; LibraryName: pixhawk2; DeviceSetName: RESISTOR
footprint 0402-RES
pins: P$1 1, P$2 2

## RESISTOR0402-RES_69
designator R?, comment 220R
ResistorBasic schematic elements and footprints for 0603, 1206, and PTH 1/10th watt (small) resistors.; PARTNO: RC0402FR-07220RL; GateName_1: G$1; DeviceName: 0402-RES; SymbolName_1: RESISTOR; LibraryName: pixhawk2; DeviceSetName: RESISTOR
footprint 0402-RES
pins: P$1 1, P$2 2

## RESISTOR0402-RES_70
designator R?, comment 220R
ResistorBasic schematic elements and footprints for 0603, 1206, and PTH 1/10th watt (small) resistors.; PARTNO: RC0402FR-07220RL; GateName_1: G$1; DeviceName: 0402-RES; SymbolName_1: RESISTOR; LibraryName: pixhawk2; DeviceSetName: RESISTOR
footprint 0402-RES
pins: P$1 1, P$2 2

## RESISTOR0402-RES_71
designator R?, comment 220R
ResistorBasic schematic elements and footprints for 0603, 1206, and PTH 1/10th watt (small) resistors.; PARTNO: RC0402FR-07220RL; GateName_1: G$1; DeviceName: 0402-RES; SymbolName_1: RESISTOR; LibraryName: pixhawk2; DeviceSetName: RESISTOR
footprint 0402-RES
pins: P$1 1, P$2 2

## RESISTOR0402-RES_72
designator R?, comment 220R
ResistorBasic schematic elements and footprints for 0603, 1206, and PTH 1/10th watt (small) resistors.; PARTNO: RC0402FR-07220RL; GateName_1: G$1; DeviceName: 0402-RES; SymbolName_1: RESISTOR; LibraryName: pixhawk2; DeviceSetName: RESISTOR
footprint 0402-RES
pins: P$1 1, P$2 2

## RESISTOR0402-RES_73
designator R?, comment 220R
ResistorBasic schematic elements and footprints for 0603, 1206, and PTH 1/10th watt (small) resistors.; PARTNO: RC0402FR-07220RL; GateName_1: G$1; DeviceName: 0402-RES; SymbolName_1: RESISTOR; LibraryName: pixhawk2; DeviceSetName: RESISTOR
footprint 0402-RES
pins: P$1 1, P$2 2

## RESISTOR0402-RES_74
designator R?, comment 220R
ResistorBasic schematic elements and footprints for 0603, 1206, and PTH 1/10th watt (small) resistors.; PARTNO: RC0402FR-07220RL; GateName_1: G$1; DeviceName: 0402-RES; SymbolName_1: RESISTOR; LibraryName: pixhawk2; DeviceSetName: RESISTOR
footprint 0402-RES
pins: P$1 1, P$2 2

## RESISTOR0402-RES_75
designator R?, comment 220R
ResistorBasic schematic elements and footprints for 0603, 1206, and PTH 1/10th watt (small) resistors.; PARTNO: RC0402FR-07220RL; GateName_1: G$1; DeviceName: 0402-RES; SymbolName_1: RESISTOR; LibraryName: pixhawk2; DeviceSetName: RESISTOR
footprint 0402-RES
pins: P$1 1, P$2 2

## RESISTOR0402-RES_76
designator R?, comment 220R
ResistorBasic schematic elements and footprints for 0603, 1206, and PTH 1/10th watt (small) resistors.; PARTNO: RC0402FR-07220RL; GateName_1: G$1; DeviceName: 0402-RES; SymbolName_1: RESISTOR; LibraryName: pixhawk2; DeviceSetName: RESISTOR
footprint 0402-RES
pins: P$1 1, P$2 2

## RESISTOR0402-RES_77
designator R?, comment 220R
ResistorBasic schematic elements and footprints for 0603, 1206, and PTH 1/10th watt (small) resistors.; PARTNO: RC0402FR-07220RL; GateName_1: G$1; DeviceName: 0402-RES; SymbolName_1: RESISTOR; LibraryName: pixhawk2; DeviceSetName: RESISTOR
footprint 0402-RES
pins: P$1 1, P$2 2

## RESISTOR0402-RES_78
designator R?, comment 220R
ResistorBasic schematic elements and footprints for 0603, 1206, and PTH 1/10th watt (small) resistors.; PARTNO: RC0402FR-07220RL; GateName_1: G$1; DeviceName: 0402-RES; SymbolName_1: RESISTOR; LibraryName: pixhawk2; DeviceSetName: RESISTOR
footprint 0402-RES
pins: P$1 1, P$2 2

## RESISTOR0402-RES_79
designator R?, comment 220R
ResistorBasic schematic elements and footprints for 0603, 1206, and PTH 1/10th watt (small) resistors.; PARTNO: RC0402FR-07220RL; GateName_1: G$1; DeviceName: 0402-RES; SymbolName_1: RESISTOR; LibraryName: pixhawk2; DeviceSetName: RESISTOR
footprint 0402-RES
pins: P$1 1, P$2 2

## RESISTOR0402-RES_80
designator R?, comment 220R
ResistorBasic schematic elements and footprints for 0603, 1206, and PTH 1/10th watt (small) resistors.; PARTNO: RC0402FR-07220RL; GateName_1: G$1; DeviceName: 0402-RES; SymbolName_1: RESISTOR; LibraryName: pixhawk2; DeviceSetName: RESISTOR
footprint 0402-RES
pins: P$1 1, P$2 2

## RESISTOR0402-RES_81
designator R?, comment 10K/0.1%
ResistorBasic schematic elements and footprints for 0603, 1206, and PTH 1/10th watt (small) resistors.; PARTNO: ERA-2AEB103X; GateName_1: G$1; DeviceName: 0402-RES; SymbolName_1: RESISTOR; LibraryName: pixhawk2; DeviceSetName: RESISTOR; NAME: *
footprint 0402-RES
pins: P$1 1, P$2 2

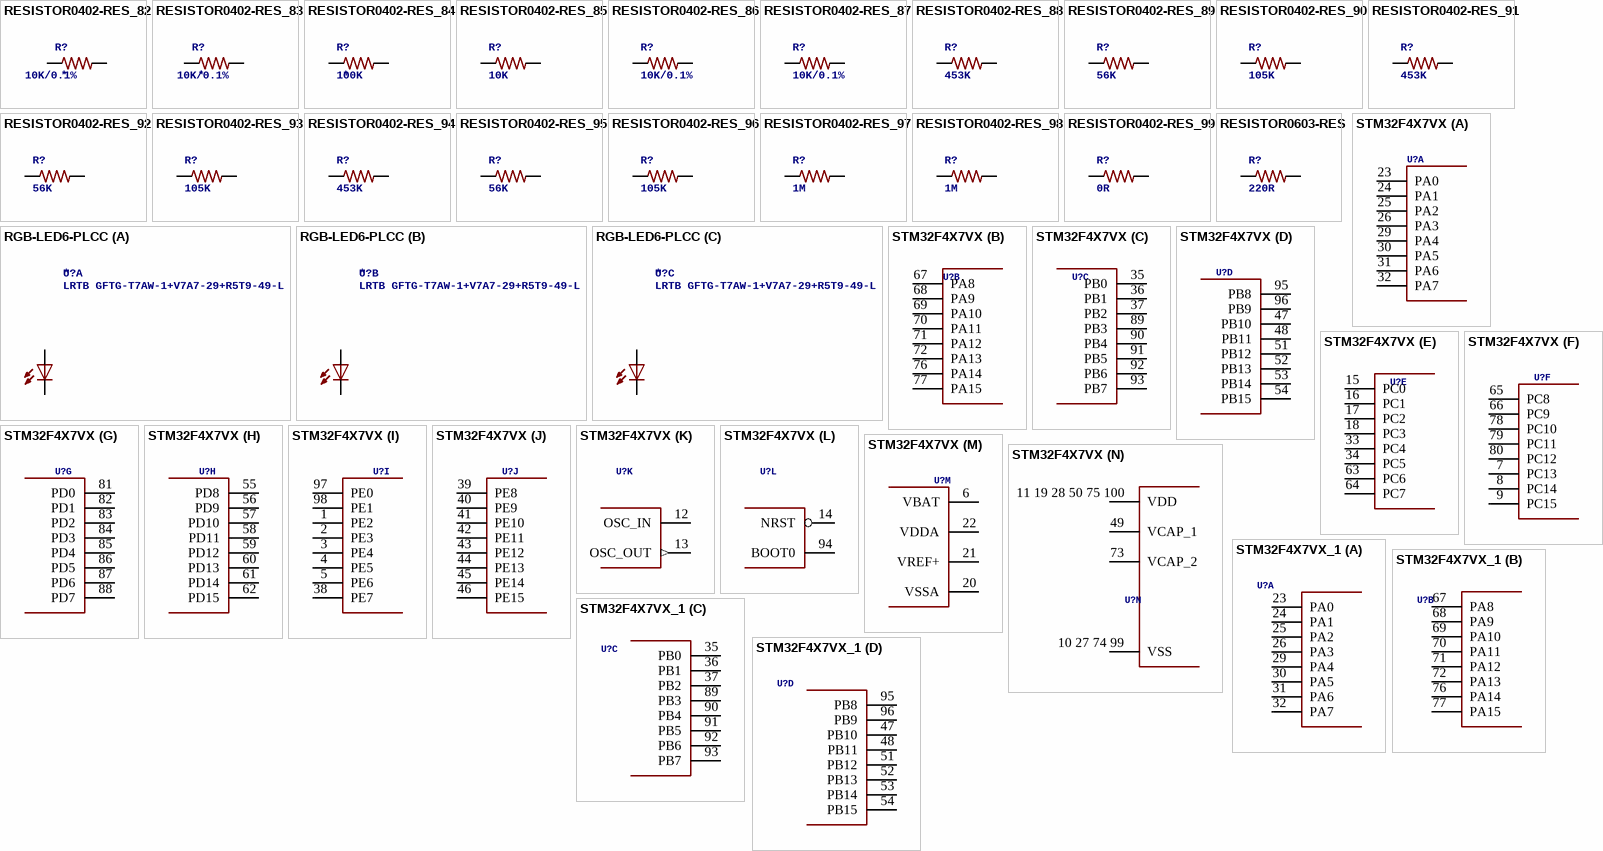
[diagram p7: symbols RESISTOR0402-RES_82 to STM32F4X7VX_1]

## RESISTOR0402-RES_82
designator R?, comment 10K/0.1%
ResistorBasic schematic elements and footprints for 0603, 1206, and PTH 1/10th watt (small) resistors.; PARTNO: ERA-2AEB103X; GateName_1: G$1; DeviceName: 0402-RES; SymbolName_1: RESISTOR; LibraryName: pixhawk2; DeviceSetName: RESISTOR; NAME: *
footprint 0402-RES
pins: P$1 1, P$2 2

## RESISTOR0402-RES_83
designator R?, comment 10K/0.1%
ResistorBasic schematic elements and footprints for 0603, 1206, and PTH 1/10th watt (small) resistors.; PARTNO: ERA-2AEB103X; GateName_1: G$1; DeviceName: 0402-RES; SymbolName_1: RESISTOR; LibraryName: pixhawk2; DeviceSetName: RESISTOR; NAME: *
footprint 0402-RES
pins: P$1 1, P$2 2

## RESISTOR0402-RES_84
designator R?, comment 100K
ResistorBasic schematic elements and footprints for 0603, 1206, and PTH 1/10th watt (small) resistors.; PARTNO: RC0402FR-07100KL; GateName_1: G$1; DeviceName: 0402-RES; SymbolName_1: RESISTOR; LibraryName: pixhawk2; DeviceSetName: RESISTOR; NAME: *
footprint 0402-RES
pins: P$1 1, P$2 2

## RESISTOR0402-RES_85
designator R?, comment 10K
ResistorBasic schematic elements and footprints for 0603, 1206, and PTH 1/10th watt (small) resistors.; PARTNO: RC0402FR-0710KL; GateName_1: G$1; DeviceName: 0402-RES; SymbolName_1: RESISTOR; LibraryName: pixhawk2; DeviceSetName: RESISTOR
footprint 0402-RES
pins: P$1 1, P$2 2

## RESISTOR0402-RES_86
designator R?, comment 10K/0.1%
ResistorBasic schematic elements and footprints for 0603, 1206, and PTH 1/10th watt (small) resistors.; PARTNO: ERA-2AEB103X; GateName_1: G$1; DeviceName: 0402-RES; SymbolName_1: RESISTOR; LibraryName: pixhawk2; DeviceSetName: RESISTOR
footprint 0402-RES
pins: P$1 1, P$2 2

## RESISTOR0402-RES_87
designator R?, comment 10K/0.1%
ResistorBasic schematic elements and footprints for 0603, 1206, and PTH 1/10th watt (small) resistors.; PARTNO: ERA-2AEB103X; GateName_1: G$1; DeviceName: 0402-RES; SymbolName_1: RESISTOR; LibraryName: pixhawk2; DeviceSetName: RESISTOR
footprint 0402-RES
pins: P$1 1, P$2 2

## RESISTOR0402-RES_88
designator R?, comment 453K
ResistorBasic schematic elements and footprints for 0603, 1206, and PTH 1/10th watt (small) resistors.; PARTNO: RMCF0402FT453K; GateName_1: G$1; DeviceName: 0402-RES; SymbolName_1: RESISTOR; LibraryName: pixhawk2; DeviceSetName: RESISTOR
footprint 0402-RES
pins: P$1 1, P$2 2

## RESISTOR0402-RES_89
designator R?, comment 56K
ResistorBasic schematic elements and footprints for 0603, 1206, and PTH 1/10th watt (small) resistors.; PARTNO: ERA-2AEB563X; GateName_1: G$1; DeviceName: 0402-RES; SymbolName_1: RESISTOR; LibraryName: pixhawk2; DeviceSetName: RESISTOR
footprint 0402-RES
pins: P$1 1, P$2 2

## RESISTOR0402-RES_90
designator R?, comment 105K
ResistorBasic schematic elements and footprints for 0603, 1206, and PTH 1/10th watt (small) resistors.; PARTNO: ERJ-2RKF1053X; GateName_1: G$1; DeviceName: 0402-RES; SymbolName_1: RESISTOR; LibraryName: pixhawk2; DeviceSetName: RESISTOR
footprint 0402-RES
pins: P$1 1, P$2 2

## RESISTOR0402-RES_91
designator R?, comment 453K
ResistorBasic schematic elements and footprints for 0603, 1206, and PTH 1/10th watt (small) resistors.; PARTNO: RMCF0402FT453K; GateName_1: G$1; DeviceName: 0402-RES; SymbolName_1: RESISTOR; LibraryName: pixhawk2; DeviceSetName: RESISTOR
footprint 0402-RES
pins: P$1 1, P$2 2

## RESISTOR0402-RES_92
designator R?, comment 56K
ResistorBasic schematic elements and footprints for 0603, 1206, and PTH 1/10th watt (small) resistors.; PARTNO: ERA-2AEB563X; GateName_1: G$1; DeviceName: 0402-RES; SymbolName_1: RESISTOR; LibraryName: pixhawk2; DeviceSetName: RESISTOR
footprint 0402-RES
pins: P$1 1, P$2 2

## RESISTOR0402-RES_93
designator R?, comment 105K
ResistorBasic schematic elements and footprints for 0603, 1206, and PTH 1/10th watt (small) resistors.; PARTNO: ERJ-2RKF1053X; GateName_1: G$1; DeviceName: 0402-RES; SymbolName_1: RESISTOR; LibraryName: pixhawk2; DeviceSetName: RESISTOR
footprint 0402-RES
pins: P$1 1, P$2 2

## RESISTOR0402-RES_94
designator R?, comment 453K
ResistorBasic schematic elements and footprints for 0603, 1206, and PTH 1/10th watt (small) resistors.; PARTNO: RMCF0402FT453K; GateName_1: G$1; DeviceName: 0402-RES; SymbolName_1: RESISTOR; LibraryName: pixhawk2; DeviceSetName: RESISTOR
footprint 0402-RES
pins: P$1 1, P$2 2

## RESISTOR0402-RES_95
designator R?, comment 56K
ResistorBasic schematic elements and footprints for 0603, 1206, and PTH 1/10th watt (small) resistors.; PARTNO: ERA-2AEB563X; GateName_1: G$1; DeviceName: 0402-RES; SymbolName_1: RESISTOR; LibraryName: pixhawk2; DeviceSetName: RESISTOR
footprint 0402-RES
pins: P$1 1, P$2 2

## RESISTOR0402-RES_96
designator R?, comment 105K
ResistorBasic schematic elements and footprints for 0603, 1206, and PTH 1/10th watt (small) resistors.; PARTNO: ERJ-2RKF1053X; GateName_1: G$1; DeviceName: 0402-RES; SymbolName_1: RESISTOR; LibraryName: pixhawk2; DeviceSetName: RESISTOR
footprint 0402-RES
pins: P$1 1, P$2 2

## RESISTOR0402-RES_97
designator R?, comment 1M
ResistorBasic schematic elements and footprints for 0603, 1206, and PTH 1/10th watt (small) resistors.; PARTNO: RC0402FR-071ML; GateName_1: G$1; DeviceName: 0402-RES; SymbolName_1: RESISTOR; LibraryName: pixhawk2; DeviceSetName: RESISTOR
footprint 0402-RES
pins: P$1 1, P$2 2

## RESISTOR0402-RES_98
designator R?, comment 1M
ResistorBasic schematic elements and footprints for 0603, 1206, and PTH 1/10th watt (small) resistors.; PARTNO: RC0402FR-071ML; GateName_1: G$1; DeviceName: 0402-RES; SymbolName_1: RESISTOR; LibraryName: pixhawk2; DeviceSetName: RESISTOR
footprint 0402-RES
pins: P$1 1, P$2 2

## RESISTOR0402-RES_99
designator R?, comment 0R
ResistorBasic schematic elements and footprints for 0603, 1206, and PTH 1/10th watt (small) resistors.; PARTNO: ERJ-2GE0R00X; GateName_1: G$1; DeviceName: 0402-RES; SymbolName_1: RESISTOR; LibraryName: pixhawk2; DeviceSetName: RESISTOR
footprint 0402-RES
pins: P$1 1, P$2 2

## RESISTOR0603-RES
designator R?, comment 220R
ResistorBasic schematic elements and footprints for 0603, 1206, and PTH 1/10th watt (small) resistors.; PARTNO: RC1608J100CS; GateName_1: G$1; DeviceName: 0603-RES; SymbolName_1: RESISTOR; LibraryName: pixhawk2; DeviceSetName: RESISTOR
footprint 0603-RES
pins: 1, 2

## RGB-LED6-PLCC
designator U?, comment LRTB GFTG-T7AW-1+V7A7-29+R5T9-49-L
RGB LED with separate anode/cathode terminals; GateName_1: BLUE; GateName_2: GREEN; GateName_3: RED; DeviceName: 6-PLCC; DeviceSetName: RGB-LED; SymbolName_1: LED; SymbolName_2: LED; SymbolName_3: LED; LibraryName: pixhawk2; NAME: *; PARTNO: LRTB GFTG-T7AW-1+V7A7-29+R5T9-49-L
footprint 6-PLCC
part A pins: A1 A, C1 C
part B pins: A2 A, C2 C
part C pins: A3 A, C3 C